# Altium schematic symbol library APC-817B1-SL.SchLib: 1 symbol
Pins are listed as number, name and electrical type; pins without a type are passive.

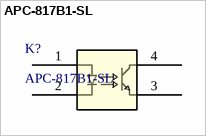
[diagram p0: symbol APC-817B1-SL]

## APC-817B1-SL
designator K?
Description; Manufacturer_Name: American Bright; Type: Optoisolators; Copyright: Copyright (C) 2025 Ultra Librarian. All rights reserved.; Manufacturer_Part_Number: APC-817B1-SL; RefDes: RefDes
footprint APC-817xx-SL_AMB
pins: 1, 2, 3, 4